# Altium footprint library Diode.PcbLib: 1 footprints
Each footprint in its own frame and in the unit in brackets; x right, y up, seen from the top. Pads: shape width x height; smd on the part's side, far side on the other; paste and mask are expansions set on the pad; w line width, h text height; cw(c..) or ccw(c..) is an arc to the next point about the centre after c.
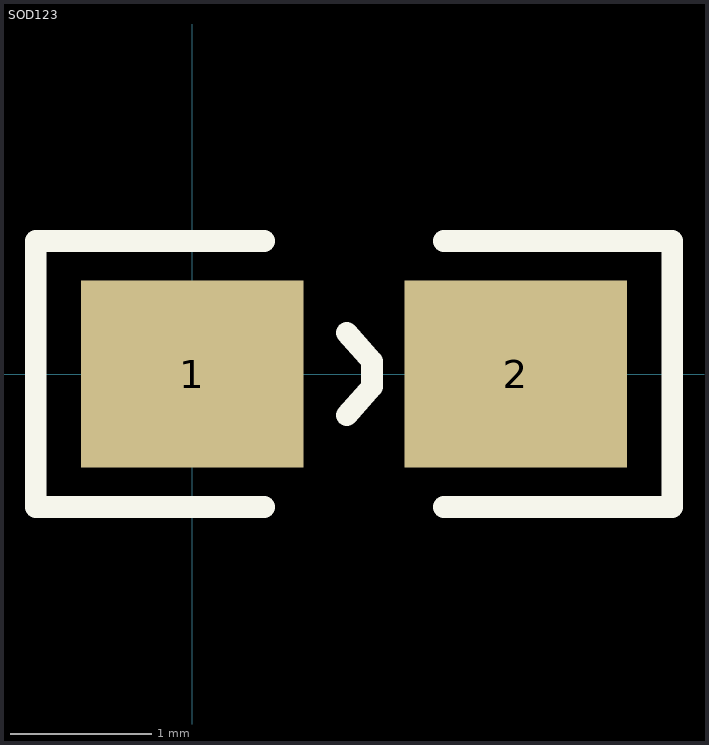
[diagram p0: the footprint, top view; thin cyan lines are the x and y axes]

## SOD123 [mil]
pads (2):
  rect 62x52 smd: 1(0,0) 2(90,0)
Top Overlay:
  lines w6: 20,-37 -43.5,-37 -43.5,37 20,37 ; 43,-11.5 50,-3.5 50,3.5 43,11.5 ; 70,-37 133.5,-37 133.5,37 70,37
3D body "User Library-SOD123-1.step": height 46.46, standoff 0, extent -31.78,-35.44 121.77,35.43